# Altium footprint library SBH11-PBPC-D17-ST-BK.PcbLib: 1 footprints
Each footprint in its own frame and in the unit in brackets; x right, y up, seen from the top. Pads: shape width x height; smd on the part's side, far side on the other; paste and mask are expansions set on the pad; w line width, h text height; cw(c..) or ccw(c..) is an arc to the next point about the centre after c.
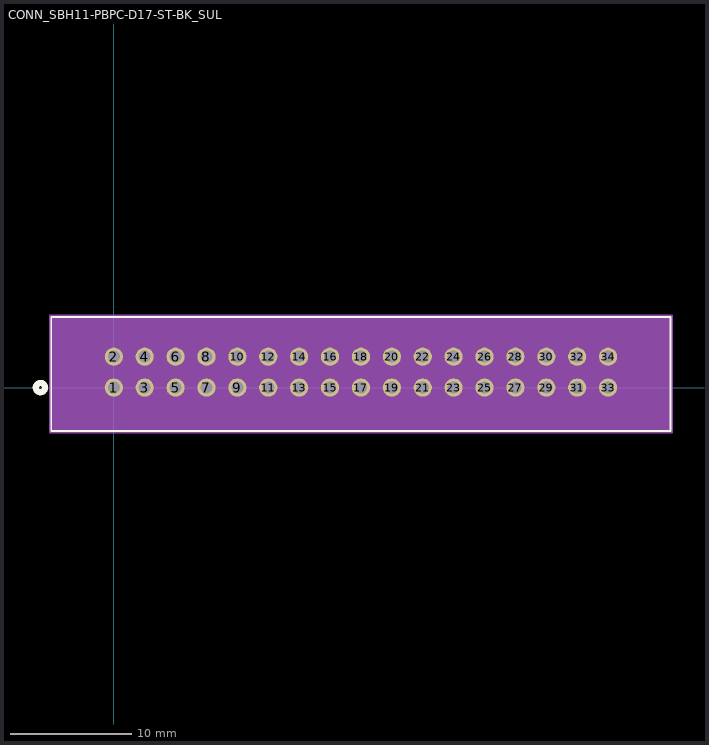
[diagram p0: the footprint, top view; thin cyan lines are the x and y axes]

## CONN_SBH11-PBPC-D17-ST-BK_SUL [mil]
pads (34):
  round 59 hole 39 paste-99999 mask+0: 1(0,0) 2(0,100) 3(100,0) 4(100,100) 5(200,0) 6(200,100) 7(300,0) 8(300,100) 9(400,0) 10(400,100) 11(500,0) 12(500,100) 13(600,0) 14(600,100) 15(700,0) 16(700,100) 17(800,0) 18(800,100) 19(900,0) 20(900,100) 21(1000,0) 22(1000,100) 23(1100,0) 24(1100,100) 25(1200,0) 26(1200,100) 27(1300,0) 28(1300,100) 29(1400,0) 30(1400,100) 31(1500,0) 32(1500,100) 33(1600,0) 34(1600,100)
Top Overlay:
  circle w20: c-237.5,0 r15
  lines w6: -202.5,-140 -202.5,228 1802.5,228 1802.5,-140 -202.5,-140
  text ".Designator" at 662.5,25 h50
Bottom Overlay:
  circle w20: c-237.5,0 r15
Mechanical 13:
  circle w20: c0,0 r15
  lines w1: -197.5,-135 -197.5,223 1797.5,223 1797.5,-135 -197.5,-135
  text ".Designator" at 662.5,25 h50
Mechanical 15:
  region: 1807.5,233 -207.5,233 -207.5,-145 1807.5,-145
  lines w6: -207.5,-145 1807.5,-145 1807.5,233 -207.5,233 -207.5,-145
3D body "SBH11-_ _ _C-D17-ST-_ _.STEP": height 374.57, standoff -101.81, extent -195.24,-125.83 1800.04,232.44